# Altium schematic symbol library SCH - MCU - NUVOTON - NUVOTON NUC442JI8AE.SchLib: 1 symbol
Pins are listed as number, name and electrical type; pins without a type are passive.

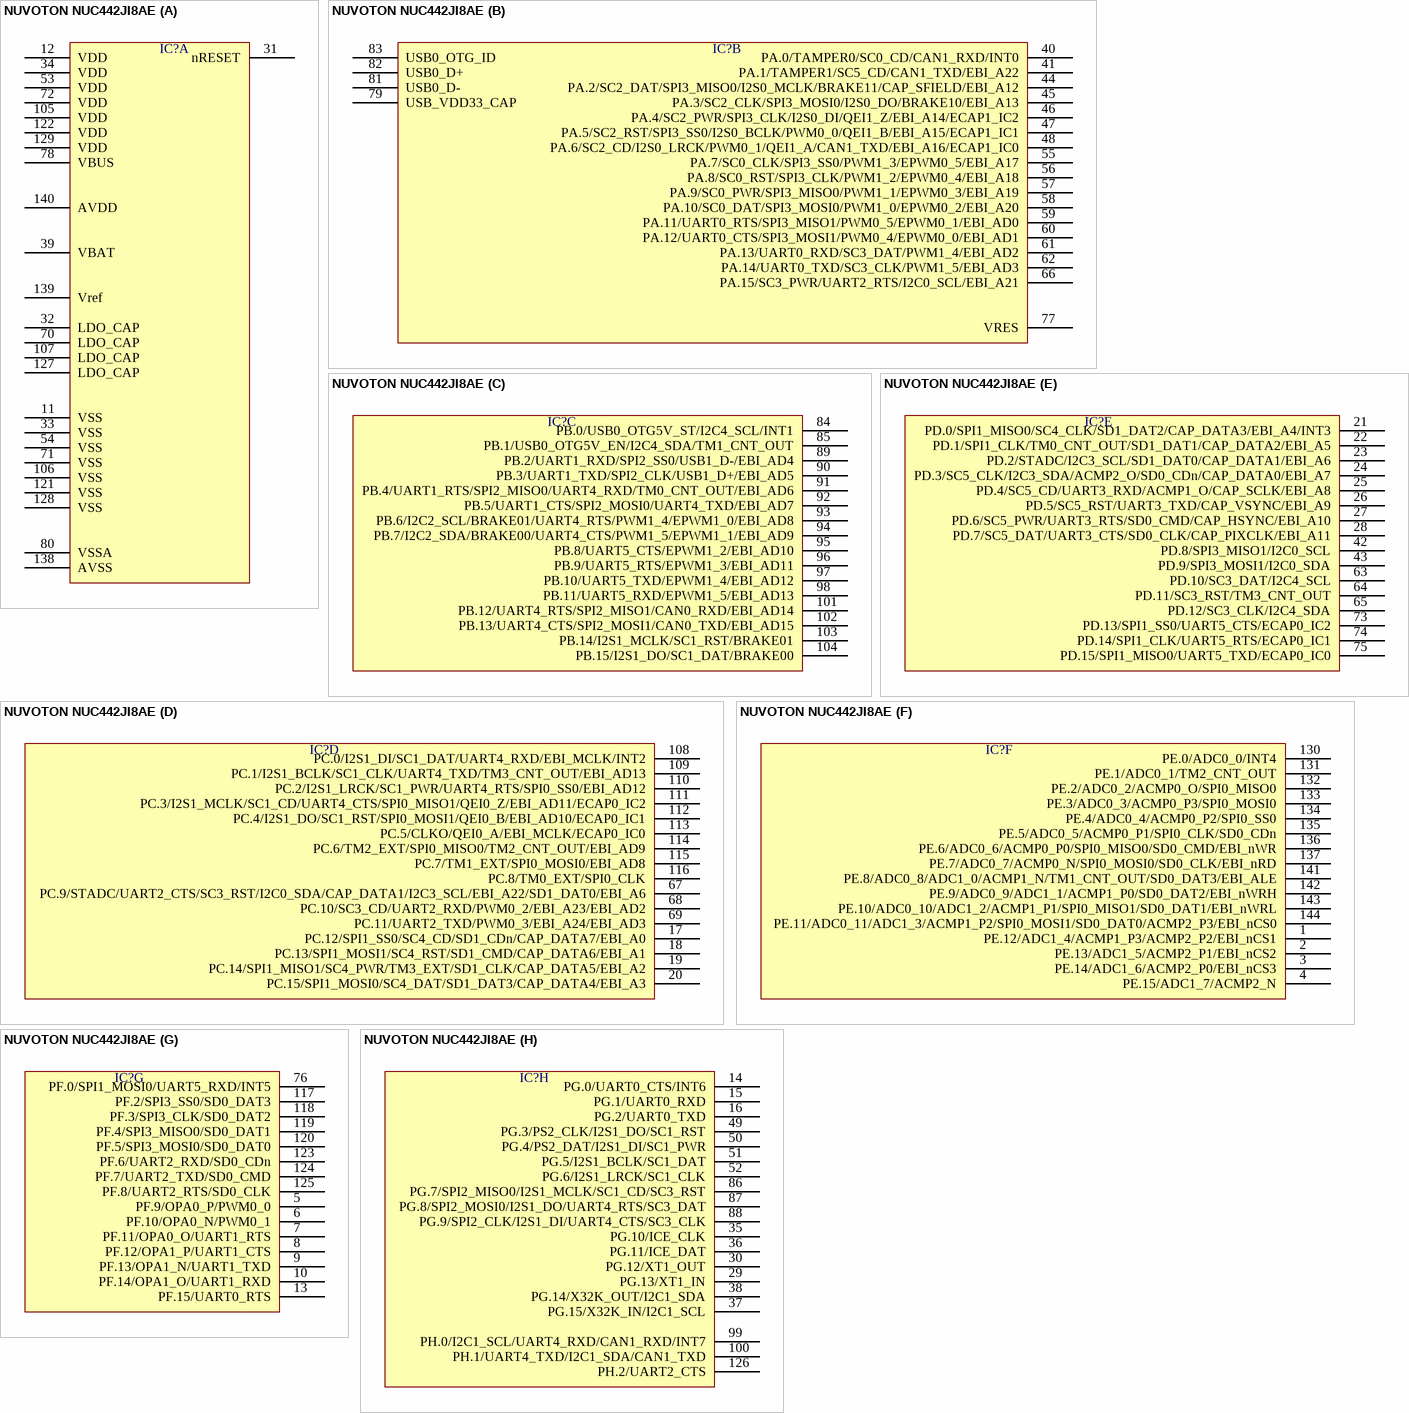
[diagram p0: symbol NUVOTON NUC442JI8AE]

## NUVOTON NUC442JI8AE
designator IC?  (value not drawn)
part A pins: 11 VSS, 12 VDD, 31 nRESET, 32 LDO_CAP, 33 VSS, 34 VDD, 39 VBAT, 53 VDD, 54 VSS, 70 LDO_CAP, 71 VSS, 72 VDD, 78 VBUS, 80 VSSA, 105 VDD, 106 VSS, 107 LDO_CAP, 121 VSS, 122 VDD, 127 LDO_CAP, 128 VSS, 129 VDD, 138 AVSS, 139 Vref, 140 AVDD
part B pins: 40 PA.0/TAMPER0/SC0_CD/CAN1_RXD/INT0, 41 PA.1/TAMPER1/SC5_CD/CAN1_TXD/EBI_A22, 44 PA.2/SC2_DAT/SPI3_MISO0/I2S0_MCLK/BRAKE11/CAP_SFIELD/EBI_A12, 45 PA.3/SC2_CLK/SPI3_MOSI0/I2S0_DO/BRAKE10/EBI_A13, 46 PA.4/SC2_PWR/SPI3_CLK/I2S0_DI/QEI1_Z/EBI_A14/ECAP1_IC2, 47 PA.5/SC2_RST/SPI3_SS0/I2S0_BCLK/PWM0_0/QEI1_B/EBI_A15/ECAP1_IC1, 48 PA.6/SC2_CD/I2S0_LRCK/PWM0_1/QEI1_A/CAN1_TXD/EBI_A16/ECAP1_IC0, 55 PA.7/SC0_CLK/SPI3_SS0/PWM1_3/EPWM0_5/EBI_A17, 56 PA.8/SC0_RST/SPI3_CLK/PWM1_2/EPWM0_4/EBI_A18, 57 PA.9/SC0_PWR/SPI3_MISO0/PWM1_1/EPWM0_3/EBI_A19, 58 PA.10/SC0_DAT/SPI3_MOSI0/PWM1_0/EPWM0_2/EBI_A20, 59 PA.11/UART0_RTS/SPI3_MISO1/PWM0_5/EPWM0_1/EBI_AD0, 60 PA.12/UART0_CTS/SPI3_MOSI1/PWM0_4/EPWM0_0/EBI_AD1, 61 PA.13/UART0_RXD/SC3_DAT/PWM1_4/EBI_AD2, 62 PA.14/UART0_TXD/SC3_CLK/PWM1_5/EBI_AD3, 66 PA.15/SC3_PWR/UART2_RTS/I2C0_SCL/EBI_A21, 77 VRES, 79 USB_VDD33_CAP, 81 USB0_D-, 82 USB0_D+, 83 USB0_OTG_ID
part C pins: 84 PB.0/USB0_OTG5V_ST/I2C4_SCL/INT1, 85 PB.1/USB0_OTG5V_EN/I2C4_SDA/TM1_CNT_OUT, 89 PB.2/UART1_RXD/SPI2_SS0/USB1_D-/EBI_AD4, 90 PB.3/UART1_TXD/SPI2_CLK/USB1_D+/EBI_AD5, 91 PB.4/UART1_RTS/SPI2_MISO0/UART4_RXD/TM0_CNT_OUT/EBI_AD6, 92 PB.5/UART1_CTS/SPI2_MOSI0/UART4_TXD/EBI_AD7, 93 PB.6/I2C2_SCL/BRAKE01/UART4_RTS/PWM1_4/EPWM1_0/EBI_AD8, 94 PB.7/I2C2_SDA/BRAKE00/UART4_CTS/PWM1_5/EPWM1_1/EBI_AD9, 95 PB.8/UART5_CTS/EPWM1_2/EBI_AD10, 96 PB.9/UART5_RTS/EPWM1_3/EBI_AD11, 97 PB.10/UART5_TXD/EPWM1_4/EBI_AD12, 98 PB.11/UART5_RXD/EPWM1_5/EBI_AD13, 101 PB.12/UART4_RTS/SPI2_MISO1/CAN0_RXD/EBI_AD14, 102 PB.13/UART4_CTS/SPI2_MOSI1/CAN0_TXD/EBI_AD15, 103 PB.14/I2S1_MCLK/SC1_RST/BRAKE01, 104 PB.15/I2S1_DO/SC1_DAT/BRAKE00
part D pins: 17 PC.12/SPI1_SS0/SC4_CD/SD1_CDn/CAP_DATA7/EBI_A0, 18 PC.13/SPI1_MOSI1/SC4_RST/SD1_CMD/CAP_DATA6/EBI_A1, 19 PC.14/SPI1_MISO1/SC4_PWR/TM3_EXT/SD1_CLK/CAP_DATA5/EBI_A2, 20 PC.15/SPI1_MOSI0/SC4_DAT/SD1_DAT3/CAP_DATA4/EBI_A3, 67 PC.9/STADC/UART2_CTS/SC3_RST/I2C0_SDA/CAP_DATA1/I2C3_SCL/EBI_A22/SD1_DAT0/EBI_A6, 68 PC.10/SC3_CD/UART2_RXD/PWM0_2/EBI_A23/EBI_AD2, 69 PC.11/UART2_TXD/PWM0_3/EBI_A24/EBI_AD3, 108 PC.0/I2S1_DI/SC1_DAT/UART4_RXD/EBI_MCLK/INT2, 109 PC.1/I2S1_BCLK/SC1_CLK/UART4_TXD/TM3_CNT_OUT/EBI_AD13, 110 PC.2/I2S1_LRCK/SC1_PWR/UART4_RTS/SPI0_SS0/EBI_AD12, 111 PC.3/I2S1_MCLK/SC1_CD/UART4_CTS/SPI0_MISO1/QEI0_Z/EBI_AD11/ECAP0_IC2, 112 PC.4/I2S1_DO/SC1_RST/SPI0_MOSI1/QEI0_B/EBI_AD10/ECAP0_IC1, 113 PC.5/CLKO/QEI0_A/EBI_MCLK/ECAP0_IC0, 114 PC.6/TM2_EXT/SPI0_MISO0/TM2_CNT_OUT/EBI_AD9, 115 PC.7/TM1_EXT/SPI0_MOSI0/EBI_AD8, 116 PC.8/TM0_EXT/SPI0_CLK
part E pins: 21 PD.0/SPI1_MISO0/SC4_CLK/SD1_DAT2/CAP_DATA3/EBI_A4/INT3, 22 PD.1/SPI1_CLK/TM0_CNT_OUT/SD1_DAT1/CAP_DATA2/EBI_A5, 23 PD.2/STADC/I2C3_SCL/SD1_DAT0/CAP_DATA1/EBI_A6, 24 PD.3/SC5_CLK/I2C3_SDA/ACMP2_O/SD0_CDn/CAP_DATA0/EBI_A7, 25 PD.4/SC5_CD/UART3_RXD/ACMP1_O/CAP_SCLK/EBI_A8, 26 PD.5/SC5_RST/UART3_TXD/CAP_VSYNC/EBI_A9, 27 PD.6/SC5_PWR/UART3_RTS/SD0_CMD/CAP_HSYNC/EBI_A10, 28 PD.7/SC5_DAT/UART3_CTS/SD0_CLK/CAP_PIXCLK/EBI_A11, 42 PD.8/SPI3_MISO1/I2C0_SCL, 43 PD.9/SPI3_MOSI1/I2C0_SDA, 63 PD.10/SC3_DAT/I2C4_SCL, 64 PD.11/SC3_RST/TM3_CNT_OUT, 65 PD.12/SC3_CLK/I2C4_SDA, 73 PD.13/SPI1_SS0/UART5_CTS/ECAP0_IC2, 74 PD.14/SPI1_CLK/UART5_RTS/ECAP0_IC1, 75 PD.15/SPI1_MISO0/UART5_TXD/ECAP0_IC0
part F pins: 1 PE.12/ADC1_4/ACMP1_P3/ACMP2_P2/EBI_nCS1, 2 PE.13/ADC1_5/ACMP2_P1/EBI_nCS2, 3 PE.14/ADC1_6/ACMP2_P0/EBI_nCS3, 4 PE.15/ADC1_7/ACMP2_N, 130 PE.0/ADC0_0/INT4, 131 PE.1/ADC0_1/TM2_CNT_OUT, 132 PE.2/ADC0_2/ACMP0_O/SPI0_MISO0, 133 PE.3/ADC0_3/ACMP0_P3/SPI0_MOSI0, 134 PE.4/ADC0_4/ACMP0_P2/SPI0_SS0, 135 PE.5/ADC0_5/ACMP0_P1/SPI0_CLK/SD0_CDn, 136 PE.6/ADC0_6/ACMP0_P0/SPI0_MISO0/SD0_CMD/EBI_nWR, 137 PE.7/ADC0_7/ACMP0_N/SPI0_MOSI0/SD0_CLK/EBI_nRD, 141 PE.8/ADC0_8/ADC1_0/ACMP1_N/TM1_CNT_OUT/SD0_DAT3/EBI_ALE, 142 PE.9/ADC0_9/ADC1_1/ACMP1_P0/SD0_DAT2/EBI_nWRH, 143 PE.10/ADC0_10/ADC1_2/ACMP1_P1/SPI0_MISO1/SD0_DAT1/EBI_nWRL, 144 PE.11/ADC0_11/ADC1_3/ACMP1_P2/SPI0_MOSI1/SD0_DAT0/ACMP2_P3/EBI_nCS0
part G pins: 5 PF.9/OPA0_P/PWM0_0, 6 PF.10/OPA0_N/PWM0_1, 7 PF.11/OPA0_O/UART1_RTS, 8 PF.12/OPA1_P/UART1_CTS, 9 PF.13/OPA1_N/UART1_TXD, 10 PF.14/OPA1_O/UART1_RXD, 13 PF.15/UART0_RTS, 76 PF.0/SPI1_MOSI0/UART5_RXD/INT5, 117 PF.2/SPI3_SS0/SD0_DAT3, 118 PF.3/SPI3_CLK/SD0_DAT2, 119 PF.4/SPI3_MISO0/SD0_DAT1, 120 PF.5/SPI3_MOSI0/SD0_DAT0, 123 PF.6/UART2_RXD/SD0_CDn, 124 PF.7/UART2_TXD/SD0_CMD, 125 PF.8/UART2_RTS/SD0_CLK
part H pins: 14 PG.0/UART0_CTS/INT6, 15 PG.1/UART0_RXD, 16 PG.2/UART0_TXD, 29 PG.13/XT1_IN, 30 PG.12/XT1_OUT, 35 PG.10/ICE_CLK, 36 PG.11/ICE_DAT, 37 PG.15/X32K_IN/I2C1_SCL, 38 PG.14/X32K_OUT/I2C1_SDA, 49 PG.3/PS2_CLK/I2S1_DO/SC1_RST, 50 PG.4/PS2_DAT/I2S1_DI/SC1_PWR, 51 PG.5/I2S1_BCLK/SC1_DAT, 52 PG.6/I2S1_LRCK/SC1_CLK, 86 PG.7/SPI2_MISO0/I2S1_MCLK/SC1_CD/SC3_RST, 87 PG.8/SPI2_MOSI0/I2S1_DO/UART4_RTS/SC3_DAT, 88 PG.9/SPI2_CLK/I2S1_DI/UART4_CTS/SC3_CLK, 99 PH.0/I2C1_SCL/UART4_RXD/CAN1_RXD/INT7, 100 PH.1/UART4_TXD/I2C1_SDA/CAN1_TXD, 126 PH.2/UART2_CTS